# EAGLE library part MIC4428 (library micrel)
IC DRIVER MOSFET 1.5A DUAL 8MSOP
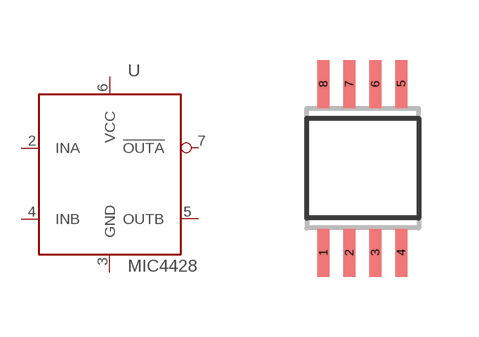
[diagram p2: symbol with the pads of MSOP08; footprint MSOP08]

Designator prefix U

## MIC4428 (DIGIKEY: 576-1527-5-ND; P1I: o)  [MSOP08]
2  INA
3  GND
4  INB
5  OUTB
6  VCC
7  !OUTA

## Footprint MSOP08 (pad centres in mm)
Mini Small Outline Package
smd 0.3 x 1.2: 1 -0.976,-2.113; 2 -0.326,-2.113; 3 0.324,-2.113; 4 0.974,-2.113; 5 0.974,2.112; 6 0.324,2.112; 7 -0.326,2.112; 8 -0.976,2.112